# EAGLE library part ST-L3GD20 (library gclueSensor)
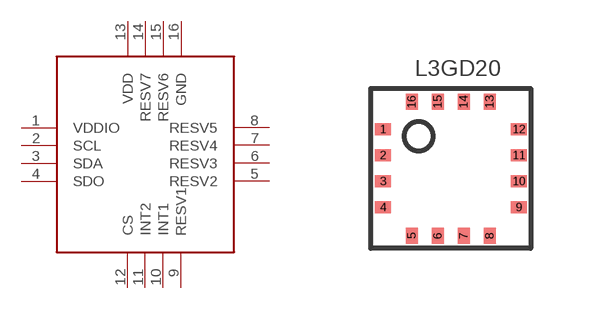
[diagram p7: symbol with the pads of ST-L3GD20; footprint ST-L3GD20]

Designator prefix -

## ST-L3GD20  [ST-L3GD20]
1  VDDIO
2  SCL
3  SDA
4  SDO
5  RESV2
6  RESV3
7  RESV4
8  RESV5
9  RESV1
10  INT1
11  INT2
12  CS
13  VDD
14  RESV7
15  RESV6
16  GND

## Footprint ST-L3GD20 (pad centres in mm)
smd 0.4 x 0.3: 1 -1.69,0.97; 2 -1.69,0.32; 3 -1.69,-0.33; 4 -1.69,-0.98; 9 1.71,-0.98; 10 1.71,-0.33; 11 1.71,0.32; 12 1.71,0.97
smd 0.3 x 0.4: 5 -0.97,-1.69; 6 -0.32,-1.69; 7 0.33,-1.69; 8 0.98,-1.69; 13 0.98,1.66; 14 0.33,1.66; 15 -0.32,1.66; 16 -0.97,1.66